# EAGLE library part LTC3455 (library xmaker)
Linear Technology LTC3455/LTC3455-1 - Dual DC/DC Converter with USB Power Manager and Li-Ion Battery Charger.
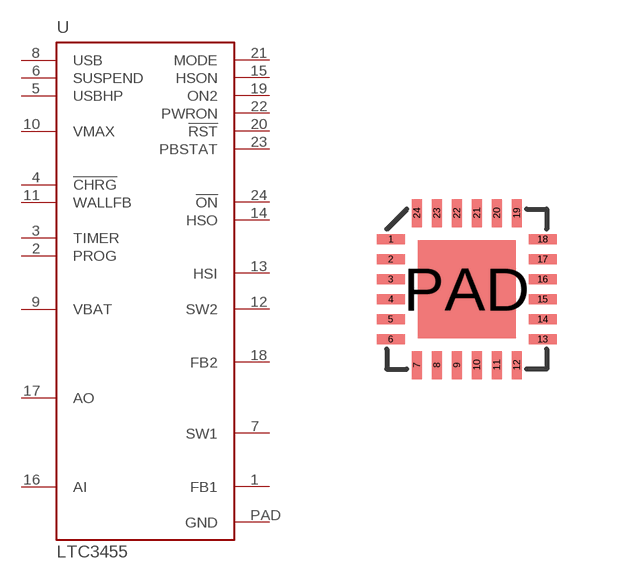
[diagram p3: symbol with the pads of QFN24-4X4-0.5; footprint QFN24-4X4-0.5]

Designator prefix U

## LTC3455EUF  [QFN24-4X4-0.5]
1  FB1
2  PROG
3  TIMER
4  !CHRG
5  USBHP
6  SUSPEND
7  SW1
8  USB
9  VBAT
10  VMAX
11  WALLFB
12  SW2
13  HSI
14  HSO
15  HSON
16  AI
17  AO
18  FB2
19  ON2
20  !RST
21  MODE
22  PWRON
23  PBSTAT
24  !ON
PAD  GND

## Footprint QFN24-4X4-0.5 (pad centres in mm)
Quad Flat No Lead Package 4mm x 4mm, 0.5mm pitch
smd 0.7 x 0.25: 1 -1.9,1.25; 2 -1.9,0.75; 3 -1.9,0.25; 4 -1.9,-0.25; 5 -1.9,-0.75; 6 -1.9,-1.25; 13 1.9,-1.25; 14 1.9,-0.75; 15 1.9,-0.25; 16 1.9,0.25; 17 1.9,0.75; 18 1.9,1.25
smd 0.25 x 0.7: 7 -1.25,-1.9; 8 -0.75,-1.9; 9 -0.25,-1.9; 10 0.25,-1.9; 11 0.75,-1.9; 12 1.25,-1.9; 19 1.25,1.9; 20 0.75,1.9; 21 0.25,1.9; 22 -0.25,1.9; 23 -0.75,1.9; 24 -1.25,1.9
smd 2.45 x 2.45: PAD 0,0